# Altium integrated library TI_Logic_Flip-Flop,Latch,Register.IntLib: 2598 symbols (part 66 of 122)
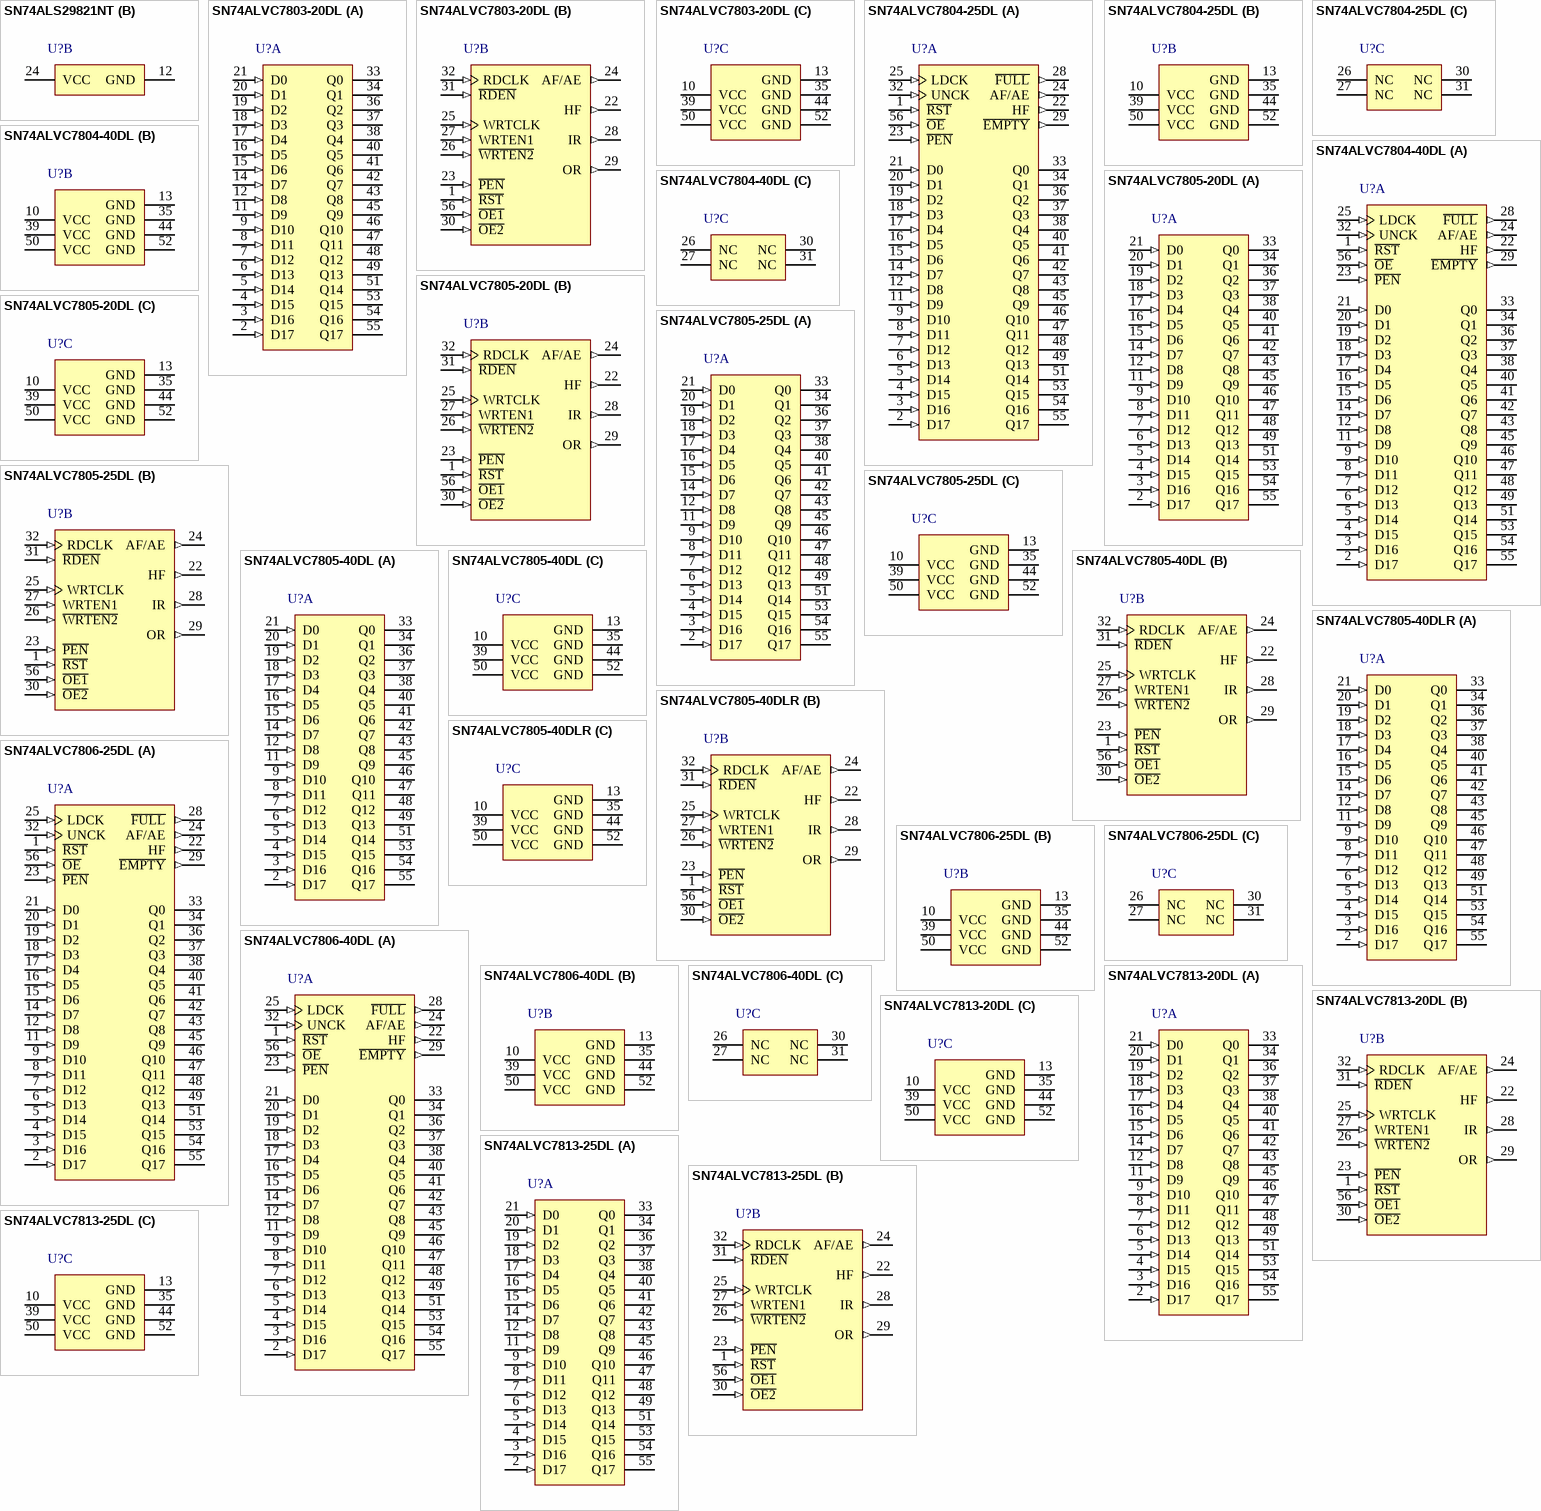
[diagram p204: symbols SN74ALS29821NT to SN74ALVC7813-25DL]

## SN74ALVC7805-25DL
designator U?
256 x 18 3.3-V synchronous FIFO memory, DL0056A, TUBE; Generic Part Number: SN74ALVC7805; Manufacturer: Texas Instruments; PartNumber: SN74ALVC7805-25DL; Vcc range(V): 3.0 to 3.6; Fmax(MHz): 50; Voltage Nodes(V): 3.3; Sync/Async: S; Rating: Catalog; Output Drive(mA): -0.5; DatasheetVersion: SCAS593A; PackageReference: DL0056A; Depth: 256; Width: 18; Code_JEDEC: MO-118; ComponentLink1Description: Manufacturer URL; ComponentLink1URL: http://www.ti.com/; ComponentLink2Description: Datasheet; ComponentLink2URL: http://www.ti.com/lit/ds/symlink/sn74alvc7805.pdf; ComponentLink3Description: Package Specification; ComponentLink3URL: http://www.ti.com/lit/ml/mpds491/mpds491.pdf
footprint DL0056A_N (SOP, 56-Leads, Body 7.6x18.5mm, Pitch 0.635mm, IPC Medium Density)
footprint DL0056A_M (SOP, 56-Leads, Body 7.6x18.5mm, Pitch 0.635mm, IPC Low Density)
footprint DL0056A_L (SOP, 56-Leads, Body 7.6x18.5mm, Pitch 0.635mm, IPC High Density)
part A pins: 2 D17 (in) "18-bit data input port", 3 D16 (in) "18-bit data input port", 4 D15 (in) "18-bit data input port", 5 D14 (in) "18-bit data input port", 6 D13 (in) "18-bit data input port", 7 D12 (in) "18-bit data input port", 8 D11 (in) "18-bit data input port", 9 D10 (in) "18-bit data input port", 11 D9 (in) "18-bit data input port", 12 D8 (in) "18-bit data input port", 14 D7 (in) "18-bit data input port", 15 D6 (in) "18-bit data input port", 16 D5 (in) "18-bit data input port", 17 D4 (in) "18-bit data input port", 18 D3 (in) "18-bit data input port", 19 D2 (in) "18-bit data input port", 20 D1 (in) "18-bit data input port", 21 D0 (in) "18-bit data input port", 33 Q0 (hiz) "18-bit data output port. After the first valid write to empty memory, the first word is output on Q0-Q17 on the third rising edge of RDCLK. OR is also asserted high at this time to indicate ready data. When OR is low, th(See Datasheet)", 34 Q1 (hiz) "18-bit data output port. After the first valid write to empty memory, the first word is output on Q0-Q17 on the third rising edge of RDCLK. OR is also asserted high at this time to indicate ready data. When OR is low, th(See Datasheet)", 36 Q2 (hiz) "18-bit data output port. After the first valid write to empty memory, the first word is output on Q0-Q17 on the third rising edge of RDCLK. OR is also asserted high at this time to indicate ready data. When OR is low, th(See Datasheet)", 37 Q3 (hiz) "18-bit data output port. After the first valid write to empty memory, the first word is output on Q0-Q17 on the third rising edge of RDCLK. OR is also asserted high at this time to indicate ready data. When OR is low, th(See Datasheet)", 38 Q4 (hiz) "18-bit data output port. After the first valid write to empty memory, the first word is output on Q0-Q17 on the third rising edge of RDCLK. OR is also asserted high at this time to indicate ready data. When OR is low, th(See Datasheet)", 40 Q5 (hiz) "18-bit data output port. After the first valid write to empty memory, the first word is output on Q0-Q17 on the third rising edge of RDCLK. OR is also asserted high at this time to indicate ready data. When OR is low, th(See Datasheet)", 41 Q6 (hiz) "18-bit data output port. After the first valid write to empty memory, the first word is output on Q0-Q17 on the third rising edge of RDCLK. OR is also asserted high at this time to indicate ready data. When OR is low, th(See Datasheet)", 42 Q7 (hiz) "18-bit data output port. After the first valid write to empty memory, the first word is output on Q0-Q17 on the third rising edge of RDCLK. OR is also asserted high at this time to indicate ready data. When OR is low, th(See Datasheet)", 43 Q8 (hiz) "18-bit data output port. After the first valid write to empty memory, the first word is output on Q0-Q17 on the third rising edge of RDCLK. OR is also asserted high at this time to indicate ready data. When OR is low, th(See Datasheet)", 45 Q9 (hiz) "18-bit data output port. After the first valid write to empty memory, the first word is output on Q0-Q17 on the third rising edge of RDCLK. OR is also asserted high at this time to indicate ready data. When OR is low, th(See Datasheet)", 46 Q10 (hiz) "18-bit data output port. After the first valid write to empty memory, the first word is output on Q0-Q17 on the third rising edge of RDCLK. OR is also asserted high at this time to indicate ready data. When OR is low, th(See Datasheet)", 47 Q11 (hiz) "18-bit data output port. After the first valid write to empty memory, the first word is output on Q0-Q17 on the third rising edge of RDCLK. OR is also asserted high at this time to indicate ready data. When OR is low, th(See Datasheet)", 48 Q12 (hiz) "18-bit data output port. After the first valid write to empty memory, the first word is output on Q0-Q17 on the third rising edge of RDCLK. OR is also asserted high at this time to indicate ready data. When OR is low, th(See Datasheet)", 49 Q13 (hiz) "18-bit data output port. After the first valid write to empty memory, the first word is output on Q0-Q17 on the third rising edge of RDCLK. OR is also asserted high at this time to indicate ready data. When OR is low, th(See Datasheet)", 51 Q14 (hiz) "18-bit data output port. After the first valid write to empty memory, the first word is output on Q0-Q17 on the third rising edge of RDCLK. OR is also asserted high at this time to indicate ready data. When OR is low, th(See Datasheet)", 53 Q15 (hiz) "18-bit data output port. After the first valid write to empty memory, the first word is output on Q0-Q17 on the third rising edge of RDCLK. OR is also asserted high at this time to indicate ready data. When OR is low, th(See Datasheet)", 54 Q16 (hiz) "18-bit data output port. After the first valid write to empty memory, the first word is output on Q0-Q17 on the third rising edge of RDCLK. OR is also asserted high at this time to indicate ready data. When OR is low, th(See Datasheet)", 55 Q17 (hiz) "18-bit data output port. After the first valid write to empty memory, the first word is output on Q0-Q17 on the third rising edge of RDCLK. OR is also asserted high at this time to indicate ready data. When OR is low, th(See Datasheet)"
part B pins: 1 ~{RST} (in) "Reset. To reset the FIFO, four low-to-high transitions of RDCLK and four low-to-high transitions of WRTCLK must occur while R\E\S\E\T\ is low. This sets HF, IR, and OR low and AF/AE high.", 22 HF (out) "Half-full flag. HF is high when the FIFO memory contains 256 or more words. HF is low after reset.", 23 ~{PEN} (in) "Program enable. After reset and before the first word is written to the FIFO, the binary value on D0-D7 is latched as an AF/AE offset value when P\E\N\ is low and WRTCLK is high", 24 AF/AE (out) "Almost-full/almost-empty flag. Depth offset values can be programmed for AF/AE, or the default value of 64 can be used for both the almost-empty offset (X) and the almost-full offset (Y). AF/AE is high when memory contains X (See Datasheet)", 25 WRTCLK (in) "Write clock. WRTCLK is a continuous clock and can be asynchronous or coincident to RDCLK. A low-to-high transition of WRTCLK writes data to memory when W\R\T\E\N\2\ is low, WRTEN1 is high, and IR is high. IR is synchronous (See Datasheet)", 26 ~{WRTEN2} (in) "Write enables. When WRTEN1 is high, W\R\T\E\N\2\ is low, and IR is high, data is written to the FIFO on a low-to-high transition of WRTCLK.", 27 WRTEN1 (in) "Write enables. When WRTEN1 is high, W\R\T\E\N\2\ is low, and IR is high, data is written to the FIFO on a low-to-high transition of WRTCLK.", 28 IR (out) "Input ready flag. IR is synchronized to the low-to-high transition of WRTCLK. When IR is low, the FIFO is full and writes are disabled. IR is low during reset and goes high on the second low-to-high transition of WRTCLK (See Datasheet)", 29 OR (out) "Output ready flag. OR is synchronized to the low-to-high transition of RDCLK. When OR is low, the FIFO is empty and reads are disabled. Ready data is present on Q0-Q17 when OR is high. OR is low during reset and goes hig(See Datasheet)", 30 ~{OE2} (in) "Output enables. When O\E\1\, O\E\2\, and R\D\E\N\ are low and OR is high, data is read from the FIFO on a low-to-high transition of RDCLK. When either O\E\1\ or O\E\2\ is high, reads are disabled and the data outputs are in (See Datasheet)", 31 ~{RDEN} (in) "Read enable. When R\D\E\N\, O\E\1\, and O\E\2\ are low and OR is high, data is read from the FIFO on the low-to-high transition of RDCLK.", 32 RDCLK (in) "Read clock. RDCLK is a continuous clock and can be asynchronous or coincident to WRTCLK. A low-to-high transition of RDCLK reads data from memory when O\E\1\, O\E\2\, and R\D\E\N\ are low and OR is high. OR is synchronous to (See Datasheet)", 56 ~{OE1} (in) "Output enables. When O\E\1\, O\E\2\, and R\D\E\N\ are low and OR is high, data is read from the FIFO on a low-to-high transition of RDCLK. When either O\E\1\ or O\E\2\ is high, reads are disabled and the data outputs are in (See Datasheet)"
part C pins: 10 VCC (power), 13 GND (power), 35 GND (power), 39 VCC (power), 44 GND (power), 50 VCC (power), 52 GND (power)

## SN74ALVC7805-40DL
designator U?
256 x 18 3.3-V synchronous FIFO memory, DL0056A, TUBE; Generic Part Number: SN74ALVC7805; Manufacturer: Texas Instruments; PartNumber: SN74ALVC7805-40DL; Vcc range(V): 3.0 to 3.6; Fmax(MHz): 50; Voltage Nodes(V): 3.3; Sync/Async: S; Rating: Catalog; Output Drive(mA): -0.5; DatasheetVersion: SCAS593A; PackageReference: DL0056A; Depth: 256; Width: 18; Code_JEDEC: MO-118; ComponentLink1Description: Manufacturer URL; ComponentLink1URL: http://www.ti.com/; ComponentLink2Description: Datasheet; ComponentLink2URL: http://www.ti.com/lit/ds/symlink/sn74alvc7805.pdf; ComponentLink3Description: Package Specification; ComponentLink3URL: http://www.ti.com/lit/ml/mpds491/mpds491.pdf
footprint DL0056A_N (SOP, 56-Leads, Body 7.6x18.5mm, Pitch 0.635mm, IPC Medium Density)
footprint DL0056A_M (SOP, 56-Leads, Body 7.6x18.5mm, Pitch 0.635mm, IPC Low Density)
footprint DL0056A_L (SOP, 56-Leads, Body 7.6x18.5mm, Pitch 0.635mm, IPC High Density)
part A pins: 2 D17 (in) "18-bit data input port", 3 D16 (in) "18-bit data input port", 4 D15 (in) "18-bit data input port", 5 D14 (in) "18-bit data input port", 6 D13 (in) "18-bit data input port", 7 D12 (in) "18-bit data input port", 8 D11 (in) "18-bit data input port", 9 D10 (in) "18-bit data input port", 11 D9 (in) "18-bit data input port", 12 D8 (in) "18-bit data input port", 14 D7 (in) "18-bit data input port", 15 D6 (in) "18-bit data input port", 16 D5 (in) "18-bit data input port", 17 D4 (in) "18-bit data input port", 18 D3 (in) "18-bit data input port", 19 D2 (in) "18-bit data input port", 20 D1 (in) "18-bit data input port", 21 D0 (in) "18-bit data input port", 33 Q0 (hiz) "18-bit data output port. After the first valid write to empty memory, the first word is output on Q0-Q17 on the third rising edge of RDCLK. OR is also asserted high at this time to indicate ready data. When OR is low, th(See Datasheet)", 34 Q1 (hiz) "18-bit data output port. After the first valid write to empty memory, the first word is output on Q0-Q17 on the third rising edge of RDCLK. OR is also asserted high at this time to indicate ready data. When OR is low, th(See Datasheet)", 36 Q2 (hiz) "18-bit data output port. After the first valid write to empty memory, the first word is output on Q0-Q17 on the third rising edge of RDCLK. OR is also asserted high at this time to indicate ready data. When OR is low, th(See Datasheet)", 37 Q3 (hiz) "18-bit data output port. After the first valid write to empty memory, the first word is output on Q0-Q17 on the third rising edge of RDCLK. OR is also asserted high at this time to indicate ready data. When OR is low, th(See Datasheet)", 38 Q4 (hiz) "18-bit data output port. After the first valid write to empty memory, the first word is output on Q0-Q17 on the third rising edge of RDCLK. OR is also asserted high at this time to indicate ready data. When OR is low, th(See Datasheet)", 40 Q5 (hiz) "18-bit data output port. After the first valid write to empty memory, the first word is output on Q0-Q17 on the third rising edge of RDCLK. OR is also asserted high at this time to indicate ready data. When OR is low, th(See Datasheet)", 41 Q6 (hiz) "18-bit data output port. After the first valid write to empty memory, the first word is output on Q0-Q17 on the third rising edge of RDCLK. OR is also asserted high at this time to indicate ready data. When OR is low, th(See Datasheet)", 42 Q7 (hiz) "18-bit data output port. After the first valid write to empty memory, the first word is output on Q0-Q17 on the third rising edge of RDCLK. OR is also asserted high at this time to indicate ready data. When OR is low, th(See Datasheet)", 43 Q8 (hiz) "18-bit data output port. After the first valid write to empty memory, the first word is output on Q0-Q17 on the third rising edge of RDCLK. OR is also asserted high at this time to indicate ready data. When OR is low, th(See Datasheet)", 45 Q9 (hiz) "18-bit data output port. After the first valid write to empty memory, the first word is output on Q0-Q17 on the third rising edge of RDCLK. OR is also asserted high at this time to indicate ready data. When OR is low, th(See Datasheet)", 46 Q10 (hiz) "18-bit data output port. After the first valid write to empty memory, the first word is output on Q0-Q17 on the third rising edge of RDCLK. OR is also asserted high at this time to indicate ready data. When OR is low, th(See Datasheet)", 47 Q11 (hiz) "18-bit data output port. After the first valid write to empty memory, the first word is output on Q0-Q17 on the third rising edge of RDCLK. OR is also asserted high at this time to indicate ready data. When OR is low, th(See Datasheet)", 48 Q12 (hiz) "18-bit data output port. After the first valid write to empty memory, the first word is output on Q0-Q17 on the third rising edge of RDCLK. OR is also asserted high at this time to indicate ready data. When OR is low, th(See Datasheet)", 49 Q13 (hiz) "18-bit data output port. After the first valid write to empty memory, the first word is output on Q0-Q17 on the third rising edge of RDCLK. OR is also asserted high at this time to indicate ready data. When OR is low, th(See Datasheet)", 51 Q14 (hiz) "18-bit data output port. After the first valid write to empty memory, the first word is output on Q0-Q17 on the third rising edge of RDCLK. OR is also asserted high at this time to indicate ready data. When OR is low, th(See Datasheet)", 53 Q15 (hiz) "18-bit data output port. After the first valid write to empty memory, the first word is output on Q0-Q17 on the third rising edge of RDCLK. OR is also asserted high at this time to indicate ready data. When OR is low, th(See Datasheet)", 54 Q16 (hiz) "18-bit data output port. After the first valid write to empty memory, the first word is output on Q0-Q17 on the third rising edge of RDCLK. OR is also asserted high at this time to indicate ready data. When OR is low, th(See Datasheet)", 55 Q17 (hiz) "18-bit data output port. After the first valid write to empty memory, the first word is output on Q0-Q17 on the third rising edge of RDCLK. OR is also asserted high at this time to indicate ready data. When OR is low, th(See Datasheet)"
part B pins: 1 ~{RST} (in) "Reset. To reset the FIFO, four low-to-high transitions of RDCLK and four low-to-high transitions of WRTCLK must occur while R\E\S\E\T\ is low. This sets HF, IR, and OR low and AF/AE high.", 22 HF (out) "Half-full flag. HF is high when the FIFO memory contains 256 or more words. HF is low after reset.", 23 ~{PEN} (in) "Program enable. After reset and before the first word is written to the FIFO, the binary value on D0-D7 is latched as an AF/AE offset value when P\E\N\ is low and WRTCLK is high", 24 AF/AE (out) "Almost-full/almost-empty flag. Depth offset values can be programmed for AF/AE, or the default value of 64 can be used for both the almost-empty offset (X) and the almost-full offset (Y). AF/AE is high when memory contains X (See Datasheet)", 25 WRTCLK (in) "Write clock. WRTCLK is a continuous clock and can be asynchronous or coincident to RDCLK. A low-to-high transition of WRTCLK writes data to memory when W\R\T\E\N\2\ is low, WRTEN1 is high, and IR is high. IR is synchronous (See Datasheet)", 26 ~{WRTEN2} (in) "Write enables. When WRTEN1 is high, W\R\T\E\N\2\ is low, and IR is high, data is written to the FIFO on a low-to-high transition of WRTCLK.", 27 WRTEN1 (in) "Write enables. When WRTEN1 is high, W\R\T\E\N\2\ is low, and IR is high, data is written to the FIFO on a low-to-high transition of WRTCLK.", 28 IR (out) "Input ready flag. IR is synchronized to the low-to-high transition of WRTCLK. When IR is low, the FIFO is full and writes are disabled. IR is low during reset and goes high on the second low-to-high transition of WRTCLK (See Datasheet)", 29 OR (out) "Output ready flag. OR is synchronized to the low-to-high transition of RDCLK. When OR is low, the FIFO is empty and reads are disabled. Ready data is present on Q0-Q17 when OR is high. OR is low during reset and goes hig(See Datasheet)", 30 ~{OE2} (in) "Output enables. When O\E\1\, O\E\2\, and R\D\E\N\ are low and OR is high, data is read from the FIFO on a low-to-high transition of RDCLK. When either O\E\1\ or O\E\2\ is high, reads are disabled and the data outputs are in (See Datasheet)", 31 ~{RDEN} (in) "Read enable. When R\D\E\N\, O\E\1\, and O\E\2\ are low and OR is high, data is read from the FIFO on the low-to-high transition of RDCLK.", 32 RDCLK (in) "Read clock. RDCLK is a continuous clock and can be asynchronous or coincident to WRTCLK. A low-to-high transition of RDCLK reads data from memory when O\E\1\, O\E\2\, and R\D\E\N\ are low and OR is high. OR is synchronous to (See Datasheet)", 56 ~{OE1} (in) "Output enables. When O\E\1\, O\E\2\, and R\D\E\N\ are low and OR is high, data is read from the FIFO on a low-to-high transition of RDCLK. When either O\E\1\ or O\E\2\ is high, reads are disabled and the data outputs are in (See Datasheet)"
part C pins: 10 VCC (power), 13 GND (power), 35 GND (power), 39 VCC (power), 44 GND (power), 50 VCC (power), 52 GND (power)

## SN74ALVC7805-40DLR
designator U?
256 x 18 3.3-V synchronous FIFO memory, DL0056A, LARGE T&R; Generic Part Number: SN74ALVC7805; Manufacturer: Texas Instruments; PartNumber: SN74ALVC7805-40DLR; Vcc range(V): 3.0 to 3.6; Fmax(MHz): 50; Voltage Nodes(V): 3.3; Sync/Async: S; Rating: Catalog; Output Drive(mA): -0.5; DatasheetVersion: SCAS593A; PackageReference: DL0056A; Depth: 256; Width: 18; Code_JEDEC: MO-118; ComponentLink1Description: Manufacturer URL; ComponentLink1URL: http://www.ti.com/; ComponentLink2Description: Datasheet; ComponentLink2URL: http://www.ti.com/lit/ds/symlink/sn74alvc7805.pdf; ComponentLink3Description: Package Specification; ComponentLink3URL: http://www.ti.com/lit/ml/mpds491/mpds491.pdf
footprint DL0056A_N (SOP, 56-Leads, Body 7.6x18.5mm, Pitch 0.635mm, IPC Medium Density)
footprint DL0056A_M (SOP, 56-Leads, Body 7.6x18.5mm, Pitch 0.635mm, IPC Low Density)
footprint DL0056A_L (SOP, 56-Leads, Body 7.6x18.5mm, Pitch 0.635mm, IPC High Density)
part A pins: 2 D17 (in) "18-bit data input port", 3 D16 (in) "18-bit data input port", 4 D15 (in) "18-bit data input port", 5 D14 (in) "18-bit data input port", 6 D13 (in) "18-bit data input port", 7 D12 (in) "18-bit data input port", 8 D11 (in) "18-bit data input port", 9 D10 (in) "18-bit data input port", 11 D9 (in) "18-bit data input port", 12 D8 (in) "18-bit data input port", 14 D7 (in) "18-bit data input port", 15 D6 (in) "18-bit data input port", 16 D5 (in) "18-bit data input port", 17 D4 (in) "18-bit data input port", 18 D3 (in) "18-bit data input port", 19 D2 (in) "18-bit data input port", 20 D1 (in) "18-bit data input port", 21 D0 (in) "18-bit data input port", 33 Q0 (hiz) "18-bit data output port. After the first valid write to empty memory, the first word is output on Q0-Q17 on the third rising edge of RDCLK. OR is also asserted high at this time to indicate ready data. When OR is low, th(See Datasheet)", 34 Q1 (hiz) "18-bit data output port. After the first valid write to empty memory, the first word is output on Q0-Q17 on the third rising edge of RDCLK. OR is also asserted high at this time to indicate ready data. When OR is low, th(See Datasheet)", 36 Q2 (hiz) "18-bit data output port. After the first valid write to empty memory, the first word is output on Q0-Q17 on the third rising edge of RDCLK. OR is also asserted high at this time to indicate ready data. When OR is low, th(See Datasheet)", 37 Q3 (hiz) "18-bit data output port. After the first valid write to empty memory, the first word is output on Q0-Q17 on the third rising edge of RDCLK. OR is also asserted high at this time to indicate ready data. When OR is low, th(See Datasheet)", 38 Q4 (hiz) "18-bit data output port. After the first valid write to empty memory, the first word is output on Q0-Q17 on the third rising edge of RDCLK. OR is also asserted high at this time to indicate ready data. When OR is low, th(See Datasheet)", 40 Q5 (hiz) "18-bit data output port. After the first valid write to empty memory, the first word is output on Q0-Q17 on the third rising edge of RDCLK. OR is also asserted high at this time to indicate ready data. When OR is low, th(See Datasheet)", 41 Q6 (hiz) "18-bit data output port. After the first valid write to empty memory, the first word is output on Q0-Q17 on the third rising edge of RDCLK. OR is also asserted high at this time to indicate ready data. When OR is low, th(See Datasheet)", 42 Q7 (hiz) "18-bit data output port. After the first valid write to empty memory, the first word is output on Q0-Q17 on the third rising edge of RDCLK. OR is also asserted high at this time to indicate ready data. When OR is low, th(See Datasheet)", 43 Q8 (hiz) "18-bit data output port. After the first valid write to empty memory, the first word is output on Q0-Q17 on the third rising edge of RDCLK. OR is also asserted high at this time to indicate ready data. When OR is low, th(See Datasheet)", 45 Q9 (hiz) "18-bit data output port. After the first valid write to empty memory, the first word is output on Q0-Q17 on the third rising edge of RDCLK. OR is also asserted high at this time to indicate ready data. When OR is low, th(See Datasheet)", 46 Q10 (hiz) "18-bit data output port. After the first valid write to empty memory, the first word is output on Q0-Q17 on the third rising edge of RDCLK. OR is also asserted high at this time to indicate ready data. When OR is low, th(See Datasheet)", 47 Q11 (hiz) "18-bit data output port. After the first valid write to empty memory, the first word is output on Q0-Q17 on the third rising edge of RDCLK. OR is also asserted high at this time to indicate ready data. When OR is low, th(See Datasheet)", 48 Q12 (hiz) "18-bit data output port. After the first valid write to empty memory, the first word is output on Q0-Q17 on the third rising edge of RDCLK. OR is also asserted high at this time to indicate ready data. When OR is low, th(See Datasheet)", 49 Q13 (hiz) "18-bit data output port. After the first valid write to empty memory, the first word is output on Q0-Q17 on the third rising edge of RDCLK. OR is also asserted high at this time to indicate ready data. When OR is low, th(See Datasheet)", 51 Q14 (hiz) "18-bit data output port. After the first valid write to empty memory, the first word is output on Q0-Q17 on the third rising edge of RDCLK. OR is also asserted high at this time to indicate ready data. When OR is low, th(See Datasheet)", 53 Q15 (hiz) "18-bit data output port. After the first valid write to empty memory, the first word is output on Q0-Q17 on the third rising edge of RDCLK. OR is also asserted high at this time to indicate ready data. When OR is low, th(See Datasheet)", 54 Q16 (hiz) "18-bit data output port. After the first valid write to empty memory, the first word is output on Q0-Q17 on the third rising edge of RDCLK. OR is also asserted high at this time to indicate ready data. When OR is low, th(See Datasheet)", 55 Q17 (hiz) "18-bit data output port. After the first valid write to empty memory, the first word is output on Q0-Q17 on the third rising edge of RDCLK. OR is also asserted high at this time to indicate ready data. When OR is low, th(See Datasheet)"
part B pins: 1 ~{RST} (in) "Reset. To reset the FIFO, four low-to-high transitions of RDCLK and four low-to-high transitions of WRTCLK must occur while R\E\S\E\T\ is low. This sets HF, IR, and OR low and AF/AE high.", 22 HF (out) "Half-full flag. HF is high when the FIFO memory contains 256 or more words. HF is low after reset.", 23 ~{PEN} (in) "Program enable. After reset and before the first word is written to the FIFO, the binary value on D0-D7 is latched as an AF/AE offset value when P\E\N\ is low and WRTCLK is high", 24 AF/AE (out) "Almost-full/almost-empty flag. Depth offset values can be programmed for AF/AE, or the default value of 64 can be used for both the almost-empty offset (X) and the almost-full offset (Y). AF/AE is high when memory contains X (See Datasheet)", 25 WRTCLK (in) "Write clock. WRTCLK is a continuous clock and can be asynchronous or coincident to RDCLK. A low-to-high transition of WRTCLK writes data to memory when W\R\T\E\N\2\ is low, WRTEN1 is high, and IR is high. IR is synchronous (See Datasheet)", 26 ~{WRTEN2} (in) "Write enables. When WRTEN1 is high, W\R\T\E\N\2\ is low, and IR is high, data is written to the FIFO on a low-to-high transition of WRTCLK.", 27 WRTEN1 (in) "Write enables. When WRTEN1 is high, W\R\T\E\N\2\ is low, and IR is high, data is written to the FIFO on a low-to-high transition of WRTCLK.", 28 IR (out) "Input ready flag. IR is synchronized to the low-to-high transition of WRTCLK. When IR is low, the FIFO is full and writes are disabled. IR is low during reset and goes high on the second low-to-high transition of WRTCLK (See Datasheet)", 29 OR (out) "Output ready flag. OR is synchronized to the low-to-high transition of RDCLK. When OR is low, the FIFO is empty and reads are disabled. Ready data is present on Q0-Q17 when OR is high. OR is low during reset and goes hig(See Datasheet)", 30 ~{OE2} (in) "Output enables. When O\E\1\, O\E\2\, and R\D\E\N\ are low and OR is high, data is read from the FIFO on a low-to-high transition of RDCLK. When either O\E\1\ or O\E\2\ is high, reads are disabled and the data outputs are in (See Datasheet)", 31 ~{RDEN} (in) "Read enable. When R\D\E\N\, O\E\1\, and O\E\2\ are low and OR is high, data is read from the FIFO on the low-to-high transition of RDCLK.", 32 RDCLK (in) "Read clock. RDCLK is a continuous clock and can be asynchronous or coincident to WRTCLK. A low-to-high transition of RDCLK reads data from memory when O\E\1\, O\E\2\, and R\D\E\N\ are low and OR is high. OR is synchronous to (See Datasheet)", 56 ~{OE1} (in) "Output enables. When O\E\1\, O\E\2\, and R\D\E\N\ are low and OR is high, data is read from the FIFO on a low-to-high transition of RDCLK. When either O\E\1\ or O\E\2\ is high, reads are disabled and the data outputs are in (See Datasheet)"
part C pins: 10 VCC (power), 13 GND (power), 35 GND (power), 39 VCC (power), 44 GND (power), 50 VCC (power), 52 GND (power)

## SN74ALVC7806-25DL
designator U?
256 x 18 3.3-V asynchronous FIFO memory, DL0056A, TUBE; Generic Part Number: SN74ALVC7806; Manufacturer: Texas Instruments; PartNumber: SN74ALVC7806-25DL; Vcc range(V): 3.0 to 3.6; Fmax(MHz): 40; Voltage Nodes(V): 3.3; Sync/Async: A; Rating: Catalog; Output Drive(mA): -0.5; DatasheetVersion: SCAS591A; PackageReference: DL0056A; Depth: 256; Width: 18; Code_JEDEC: MO-118; ComponentLink1Description: Manufacturer URL; ComponentLink1URL: http://www.ti.com/; ComponentLink2Description: Datasheet; ComponentLink2URL: http://www.ti.com/lit/ds/symlink/sn74alvc7806.pdf; ComponentLink3Description: Package Specification; ComponentLink3URL: http://www.ti.com/lit/ml/mpds491/mpds491.pdf
footprint DL0056A_N (SOP, 56-Leads, Body 7.6x18.5mm, Pitch 0.635mm, IPC Medium Density)
footprint DL0056A_M (SOP, 56-Leads, Body 7.6x18.5mm, Pitch 0.635mm, IPC Low Density)
footprint DL0056A_L (SOP, 56-Leads, Body 7.6x18.5mm, Pitch 0.635mm, IPC High Density)
part A pins: 1 ~{RST} (in) "Reset. A low level on R\E\S\E\T\ resets the FIFO and drives AF/AE and F\U\L\L\ high and HF and E\M\P\T\Y\ low.", 2 D17 (in) "18-bit data input port", 3 D16 (in) "18-bit data input port", 4 D15 (in) "18-bit data input port", 5 D14 (in) "18-bit data input port", 6 D13 (in) "18-bit data input port", 7 D12 (in) "18-bit data input port", 8 D11 (in) "18-bit data input port", 9 D10 (in) "18-bit data input port", 11 D9 (in) "18-bit data input port", 12 D8 (in) "18-bit data input port", 14 D7 (in) "18-bit data input port", 15 D6 (in) "18-bit data input port", 16 D5 (in) "18-bit data input port", 17 D4 (in) "18-bit data input port", 18 D3 (in) "18-bit data input port", 19 D2 (in) "18-bit data input port", 20 D1 (in) "18-bit data input port", 21 D0 (in) "18-bit data input port", 22 HF (out) "Half-full flag. HF is high when the FIFO memory contains 256 or more words. HF is low after reset.", 23 ~{PEN} (in) "Program enable. After reset and before the first word is written to the FIFO, the binary value on D0-D7 is latched as an AF/AE offset value when P\E\N\ is low and LDCK is high.", 24 AF/AE (out) "Almost-full/almost-empty flag. Depth-offset values can be programmed for AF/AE, or the default value of 64 can be used for both the almost-empty offset (X) and the almost-full offset (Y). AF/AE is high when memory contains X (See Datasheet)", 25 LDCK (in) "Load clock. Data is written to the FIFO on the rising edge of LDCK when F\U\L\L\ is high.", 28 ~{FULL} (out) "Full flag. F\U\L\L\ is low when the FIFO is full. A FIFO reset causes F\U\L\L\ to go high.", 29 ~{EMPTY} (out) "Empty flag. E\M\P\T\Y\ is low when the FIFO is empty. A FIFO reset also causes E\M\P\T\Y\ to go low.", 32 UNCK (in) "Unload clock. Data is read from the FIFO on the rising edge of UNCK when E\M\P\T\Y\ is high.", 33 Q0 (hiz) "18-bit data output port", 34 Q1 (hiz) "18-bit data output port", 36 Q2 (hiz) "18-bit data output port", 37 Q3 (hiz) "18-bit data output port", 38 Q4 (hiz) "18-bit data output port", 40 Q5 (hiz) "18-bit data output port", 41 Q6 (hiz) "18-bit data output port", 42 Q7 (hiz) "18-bit data output port", 43 Q8 (hiz) "18-bit data output port", 45 Q9 (hiz) "18-bit data output port", 46 Q10 (hiz) "18-bit data output port", 47 Q11 (hiz) "18-bit data output port", 48 Q12 (hiz) "18-bit data output port", 49 Q13 (hiz) "18-bit data output port", 51 Q14 (hiz) "18-bit data output port", 53 Q15 (hiz) "18-bit data output port", 54 Q16 (hiz) "18-bit data output port", 55 Q17 (hiz) "18-bit data output port", 56 ~{OE} (in) "Output enable. When O\E\ is high, the data outputs are in the high-impedance state."
part B pins: 10 VCC (power), 13 GND (power), 35 GND (power), 39 VCC (power), 44 GND (power), 50 VCC (power), 52 GND (power)
part C pins: 26 NC, 27 NC, 30 NC, 31 NC

## SN74ALVC7806-40DL
designator U?
256 x 18 3.3-V asynchronous FIFO memory, DL0056A, TUBE; Generic Part Number: SN74ALVC7806; Manufacturer: Texas Instruments; PartNumber: SN74ALVC7806-40DL; Vcc range(V): 3.0 to 3.6; Fmax(MHz): 40; Voltage Nodes(V): 3.3; Sync/Async: A; Rating: Catalog; Output Drive(mA): -0.5; DatasheetVersion: SCAS591A; PackageReference: DL0056A; Depth: 256; Width: 18; Code_JEDEC: MO-118; ComponentLink1Description: Manufacturer URL; ComponentLink1URL: http://www.ti.com/; ComponentLink2Description: Datasheet; ComponentLink2URL: http://www.ti.com/lit/ds/symlink/sn74alvc7806.pdf; ComponentLink3Description: Package Specification; ComponentLink3URL: http://www.ti.com/lit/ml/mpds491/mpds491.pdf
footprint DL0056A_N (SOP, 56-Leads, Body 7.6x18.5mm, Pitch 0.635mm, IPC Medium Density)
footprint DL0056A_M (SOP, 56-Leads, Body 7.6x18.5mm, Pitch 0.635mm, IPC Low Density)
footprint DL0056A_L (SOP, 56-Leads, Body 7.6x18.5mm, Pitch 0.635mm, IPC High Density)
part A pins: 1 ~{RST} (in) "Reset. A low level on R\E\S\E\T\ resets the FIFO and drives AF/AE and F\U\L\L\ high and HF and E\M\P\T\Y\ low.", 2 D17 (in) "18-bit data input port", 3 D16 (in) "18-bit data input port", 4 D15 (in) "18-bit data input port", 5 D14 (in) "18-bit data input port", 6 D13 (in) "18-bit data input port", 7 D12 (in) "18-bit data input port", 8 D11 (in) "18-bit data input port", 9 D10 (in) "18-bit data input port", 11 D9 (in) "18-bit data input port", 12 D8 (in) "18-bit data input port", 14 D7 (in) "18-bit data input port", 15 D6 (in) "18-bit data input port", 16 D5 (in) "18-bit data input port", 17 D4 (in) "18-bit data input port", 18 D3 (in) "18-bit data input port", 19 D2 (in) "18-bit data input port", 20 D1 (in) "18-bit data input port", 21 D0 (in) "18-bit data input port", 22 HF (out) "Half-full flag. HF is high when the FIFO memory contains 256 or more words. HF is low after reset.", 23 ~{PEN} (in) "Program enable. After reset and before the first word is written to the FIFO, the binary value on D0-D7 is latched as an AF/AE offset value when P\E\N\ is low and LDCK is high.", 24 AF/AE (out) "Almost-full/almost-empty flag. Depth-offset values can be programmed for AF/AE, or the default value of 64 can be used for both the almost-empty offset (X) and the almost-full offset (Y). AF/AE is high when memory contains X (See Datasheet)", 25 LDCK (in) "Load clock. Data is written to the FIFO on the rising edge of LDCK when F\U\L\L\ is high.", 28 ~{FULL} (out) "Full flag. F\U\L\L\ is low when the FIFO is full. A FIFO reset causes F\U\L\L\ to go high.", 29 ~{EMPTY} (out) "Empty flag. E\M\P\T\Y\ is low when the FIFO is empty. A FIFO reset also causes E\M\P\T\Y\ to go low.", 32 UNCK (in) "Unload clock. Data is read from the FIFO on the rising edge of UNCK when E\M\P\T\Y\ is high.", 33 Q0 (hiz) "18-bit data output port", 34 Q1 (hiz) "18-bit data output port", 36 Q2 (hiz) "18-bit data output port", 37 Q3 (hiz) "18-bit data output port", 38 Q4 (hiz) "18-bit data output port", 40 Q5 (hiz) "18-bit data output port", 41 Q6 (hiz) "18-bit data output port", 42 Q7 (hiz) "18-bit data output port", 43 Q8 (hiz) "18-bit data output port", 45 Q9 (hiz) "18-bit data output port", 46 Q10 (hiz) "18-bit data output port", 47 Q11 (hiz) "18-bit data output port", 48 Q12 (hiz) "18-bit data output port", 49 Q13 (hiz) "18-bit data output port", 51 Q14 (hiz) "18-bit data output port", 53 Q15 (hiz) "18-bit data output port", 54 Q16 (hiz) "18-bit data output port", 55 Q17 (hiz) "18-bit data output port", 56 ~{OE} (in) "Output enable. When O\E\ is high, the data outputs are in the high-impedance state."
part B pins: 10 VCC (power), 13 GND (power), 35 GND (power), 39 VCC (power), 44 GND (power), 50 VCC (power), 52 GND (power)
part C pins: 26 NC, 27 NC, 30 NC, 31 NC

## SN74ALVC7813-20DL
designator U?
64 x 18 3.3-V synchronous FIFO memory, DL0056A, TUBE; Generic Part Number: SN74ALVC7813; Manufacturer: Texas Instruments; PartNumber: SN74ALVC7813-20DL; Vcc range(V): 3.0 to 3.6; Fmax(MHz): 50; Voltage Nodes(V): 3.3; Sync/Async: S; Rating: Catalog; DatasheetVersion: SCAS594A; PackageReference: DL0056A; Depth: 64; Width: 18; Code_JEDEC: MO-118; ComponentLink1Description: Manufacturer URL; ComponentLink1URL: http://www.ti.com/; ComponentLink2Description: Datasheet; ComponentLink2URL: http://www.ti.com/lit/ds/symlink/sn74alvc7813.pdf; ComponentLink3Description: Package Specification; ComponentLink3URL: http://www.ti.com/lit/ml/mpds491/mpds491.pdf
footprint DL0056A_N (SOP, 56-Leads, Body 7.6x18.5mm, Pitch 0.635mm, IPC Medium Density)
footprint DL0056A_M (SOP, 56-Leads, Body 7.6x18.5mm, Pitch 0.635mm, IPC Low Density)
footprint DL0056A_L (SOP, 56-Leads, Body 7.6x18.5mm, Pitch 0.635mm, IPC High Density)
part A pins: 2 D17 (in) "18-bit data input port", 3 D16 (in) "18-bit data input port", 4 D15 (in) "18-bit data input port", 5 D14 (in) "18-bit data input port", 6 D13 (in) "18-bit data input port", 7 D12 (in) "18-bit data input port", 8 D11 (in) "18-bit data input port", 9 D10 (in) "18-bit data input port", 11 D9 (in) "18-bit data input port", 12 D8 (in) "18-bit data input port", 14 D7 (in) "18-bit data input port", 15 D6 (in) "18-bit data input port", 16 D5 (in) "18-bit data input port", 17 D4 (in) "18-bit data input port", 18 D3 (in) "18-bit data input port", 19 D2 (in) "18-bit data input port", 20 D1 (in) "18-bit data input port", 21 D0 (in) "18-bit data input port", 33 Q0 (hiz) "18-bit data output port. After the first valid write to empty memory, the first word is output on Q0-Q17 on the third rising edge of RDCLK. OR is also asserted high at this time to indicate ready data. When OR is low, th(See Datasheet)", 34 Q1 (hiz) "18-bit data output port. After the first valid write to empty memory, the first word is output on Q0-Q17 on the third rising edge of RDCLK. OR is also asserted high at this time to indicate ready data. When OR is low, th(See Datasheet)", 36 Q2 (hiz) "18-bit data output port. After the first valid write to empty memory, the first word is output on Q0-Q17 on the third rising edge of RDCLK. OR is also asserted high at this time to indicate ready data. When OR is low, th(See Datasheet)", 37 Q3 (hiz) "18-bit data output port. After the first valid write to empty memory, the first word is output on Q0-Q17 on the third rising edge of RDCLK. OR is also asserted high at this time to indicate ready data. When OR is low, th(See Datasheet)", 38 Q4 (hiz) "18-bit data output port. After the first valid write to empty memory, the first word is output on Q0-Q17 on the third rising edge of RDCLK. OR is also asserted high at this time to indicate ready data. When OR is low, th(See Datasheet)", 40 Q5 (hiz) "18-bit data output port. After the first valid write to empty memory, the first word is output on Q0-Q17 on the third rising edge of RDCLK. OR is also asserted high at this time to indicate ready data. When OR is low, th(See Datasheet)", 41 Q6 (hiz) "18-bit data output port. After the first valid write to empty memory, the first word is output on Q0-Q17 on the third rising edge of RDCLK. OR is also asserted high at this time to indicate ready data. When OR is low, th(See Datasheet)", 42 Q7 (hiz) "18-bit data output port. After the first valid write to empty memory, the first word is output on Q0-Q17 on the third rising edge of RDCLK. OR is also asserted high at this time to indicate ready data. When OR is low, th(See Datasheet)", 43 Q8 (hiz) "18-bit data output port. After the first valid write to empty memory, the first word is output on Q0-Q17 on the third rising edge of RDCLK. OR is also asserted high at this time to indicate ready data. When OR is low, th(See Datasheet)", 45 Q9 (hiz) "18-bit data output port. After the first valid write to empty memory, the first word is output on Q0-Q17 on the third rising edge of RDCLK. OR is also asserted high at this time to indicate ready data. When OR is low, th(See Datasheet)", 46 Q10 (hiz) "18-bit data output port. After the first valid write to empty memory, the first word is output on Q0-Q17 on the third rising edge of RDCLK. OR is also asserted high at this time to indicate ready data. When OR is low, th(See Datasheet)", 47 Q11 (hiz) "18-bit data output port. After the first valid write to empty memory, the first word is output on Q0-Q17 on the third rising edge of RDCLK. OR is also asserted high at this time to indicate ready data. When OR is low, th(See Datasheet)", 48 Q12 (hiz) "18-bit data output port. After the first valid write to empty memory, the first word is output on Q0-Q17 on the third rising edge of RDCLK. OR is also asserted high at this time to indicate ready data. When OR is low, th(See Datasheet)", 49 Q13 (hiz) "18-bit data output port. After the first valid write to empty memory, the first word is output on Q0-Q17 on the third rising edge of RDCLK. OR is also asserted high at this time to indicate ready data. When OR is low, th(See Datasheet)", 51 Q14 (hiz) "18-bit data output port. After the first valid write to empty memory, the first word is output on Q0-Q17 on the third rising edge of RDCLK. OR is also asserted high at this time to indicate ready data. When OR is low, th(See Datasheet)", 53 Q15 (hiz) "18-bit data output port. After the first valid write to empty memory, the first word is output on Q0-Q17 on the third rising edge of RDCLK. OR is also asserted high at this time to indicate ready data. When OR is low, th(See Datasheet)", 54 Q16 (hiz) "18-bit data output port. After the first valid write to empty memory, the first word is output on Q0-Q17 on the third rising edge of RDCLK. OR is also asserted high at this time to indicate ready data. When OR is low, th(See Datasheet)", 55 Q17 (hiz) "18-bit data output port. After the first valid write to empty memory, the first word is output on Q0-Q17 on the third rising edge of RDCLK. OR is also asserted high at this time to indicate ready data. When OR is low, th(See Datasheet)"
part B pins: 1 ~{RST} (in) "Reset. To reset the FIFO, four low-to-high transitions of RDCLK and four low-to-high transitions of WRTCLK must occur while R\E\S\E\T\ is low. This sets HF, IR, and OR low and AF/AE high.", 22 HF (out) "Half-full flag. HF is high when the FIFO memory contains 256 or more words. HF is low after reset.", 23 ~{PEN} (in) "Program enable. After reset and before the first word is written to the FIFO, the binary value on D0-D7 is latched as an AF/AE offset value when P\E\N\ is low and WRTCLK is high", 24 AF/AE (out) "Almost-full/almost-empty flag. Depth offset values can be programmed for AF/AE, or the default value of 64 can be used for both the almost-empty offset (X) and the almost-full offset (Y). AF/AE is high when memory contains X (See Datasheet)", 25 WRTCLK (in) "Write clock. WRTCLK is a continuous clock and can be asynchronous or coincident to RDCLK. A low-to-high transition of WRTCLK writes data to memory when W\R\T\E\N\2\ is low, WRTEN1 is high, and IR is high. IR is synchronous (See Datasheet)", 26 ~{WRTEN2} (in) "Write enables. When WRTEN1 is high, W\R\T\E\N\2\ is low, and IR is high, data is written to the FIFO on a low-to-high transition of WRTCLK.", 27 WRTEN1 (in) "Write enables. When WRTEN1 is high, W\R\T\E\N\2\ is low, and IR is high, data is written to the FIFO on a low-to-high transition of WRTCLK.", 28 IR (out) "Input ready flag. IR is synchronized to the low-to-high transition of WRTCLK. When IR is low, the FIFO is full and writes are disabled. IR is low during reset and goes high on the second low-to-high transition of WRTCLK (See Datasheet)", 29 OR (out) "Output ready flag. OR is synchronized to the low-to-high transition of RDCLK. When OR is low, the FIFO is empty and reads are disabled. Ready data is present on Q0-Q17 when OR is high. OR is low during reset and goes hig(See Datasheet)", 30 ~{OE2} (in) "Output enables. When O\E\1\, O\E\2\, and R\D\E\N\ are low and OR is high, data is read from the FIFO on a low-to-high transition of RDCLK. When either O\E\1\ or O\E\2\ is high, reads are disabled and the data outputs are in (See Datasheet)", 31 ~{RDEN} (in) "Read enable. When R\D\E\N\, O\E\1\, and O\E\2\ are low and OR is high, data is read from the FIFO on the low-to-high transition of RDCLK.", 32 RDCLK (in) "Read clock. RDCLK is a continuous clock and can be asynchronous or coincident to WRTCLK. A low-to-high transition of RDCLK reads data from memory when O\E\1\, O\E\2\, and R\D\E\N\ are low and OR is high. OR is synchronous to (See Datasheet)", 56 ~{OE1} (in) "Output enables. When O\E\1\, O\E\2\, and R\D\E\N\ are low and OR is high, data is read from the FIFO on a low-to-high transition of RDCLK. When either O\E\1\ or O\E\2\ is high, reads are disabled and the data outputs are in (See Datasheet)"
part C pins: 10 VCC (power), 13 GND (power), 35 GND (power), 39 VCC (power), 44 GND (power), 50 VCC (power), 52 GND (power)